# EAGLE library part ARUDUINO_MEGA_2560_R3 (library aruduinos)
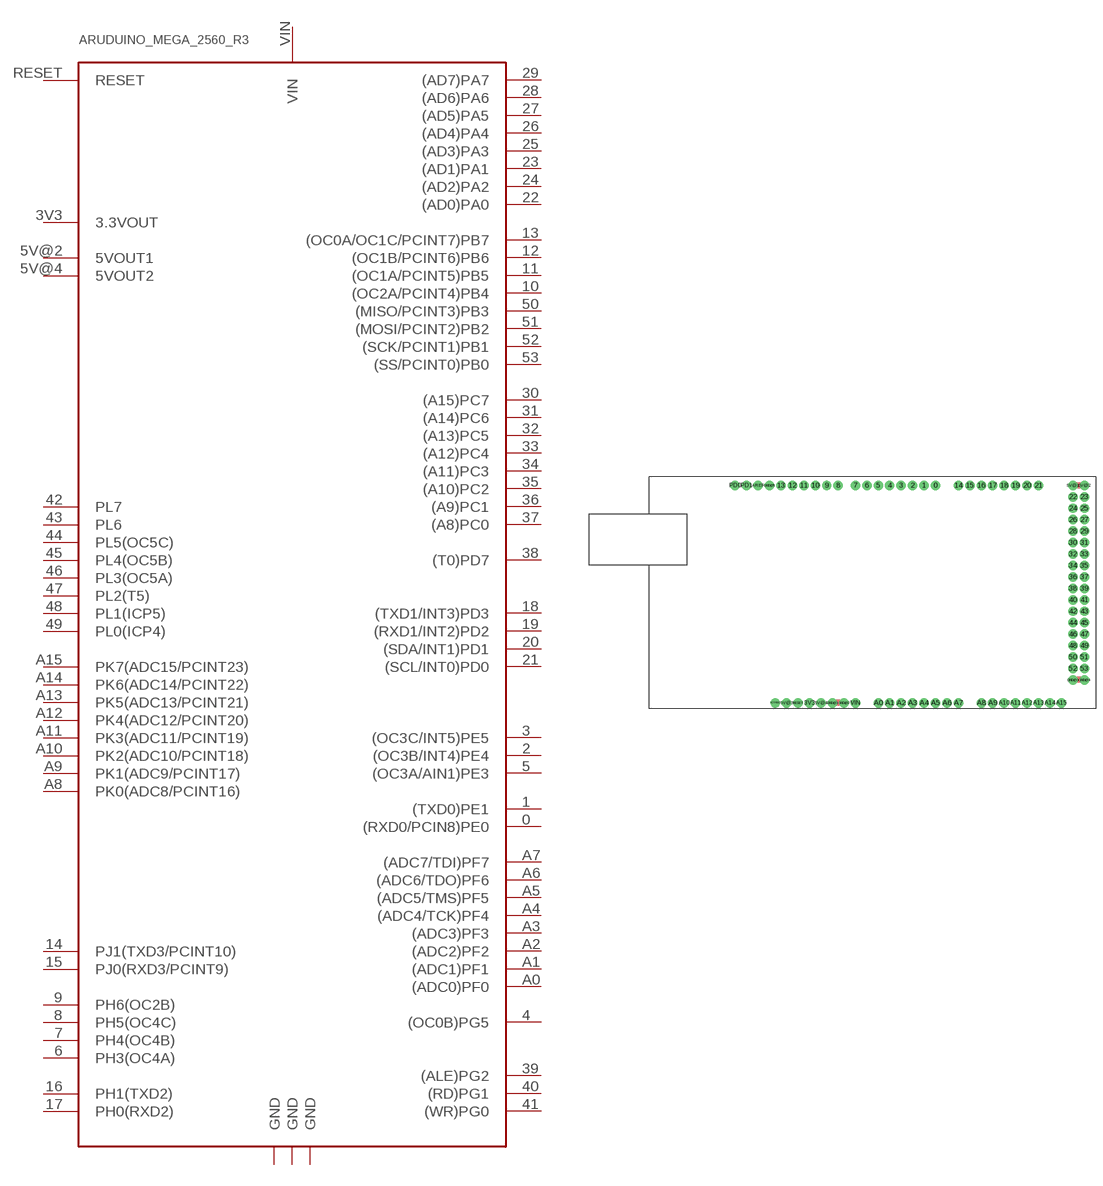
[diagram p0: symbol with the pads of ARUDUINO_MEGA_2560_R3; footprint ARUDUINO_MEGA_2560_R3]

Designator prefix AR

## ARUDUINO_MEGA_2560_R3  [ARUDUINO_MEGA_2560_R3]
0  (RXD0/PCIN8)PE0
1  (TXD0)PE1
2  (OC3B/INT4)PE4
3  (OC3C/INT5)PE5
3V3  3.3VOUT
4  (OC0B)PG5
5  (OC3A/AIN1)PE3
5V@2  5VOUT1
5V@4  5VOUT2
6  PH3(OC4A)
7  PH4(OC4B)
8  PH5(OC4C)
9  PH6(OC2B)
10  (OC2A/PCINT4)PB4
11  (OC1A/PCINT5)PB5
12  (OC1B/PCINT6)PB6
13  (OC0A/OC1C/PCINT7)PB7
14  PJ1(TXD3/PCINT10)
15  PJ0(RXD3/PCINT9)
16  PH1(TXD2)
17  PH0(RXD2)
18  (TXD1/INT3)PD3
19  (RXD1/INT2)PD2
20  (SDA/INT1)PD1
21  (SCL/INT0)PD0
22  (AD0)PA0
23  (AD1)PA1
24  (AD2)PA2
25  (AD3)PA3
26  (AD4)PA4
27  (AD5)PA5
28  (AD6)PA6
29  (AD7)PA7
30  (A15)PC7
31  (A14)PC6
32  (A13)PC5
33  (A12)PC4
34  (A11)PC3
35  (A10)PC2
36  (A9)PC1
37  (A8)PC0
38  (T0)PD7
39  (ALE)PG2
40  (RD)PG1
41  (WR)PG0
42  PL7
43  PL6
44  PL5(OC5C)
45  PL4(OC5B)
46  PL3(OC5A)
47  PL2(T5)
48  PL1(ICP5)
49  PL0(ICP4)
50  (MISO/PCINT3)PB3
51  (MOSI/PCINT2)PB2
52  (SCK/PCINT1)PB1
53  (SS/PCINT0)PB0
A0  (ADC0)PF0
A1  (ADC1)PF1
A2  (ADC2)PF2
A3  (ADC3)PF3
A4  (ADC4/TCK)PF4
A5  (ADC5/TMS)PF5
A6  (ADC6/TDO)PF6
A7  (ADC7/TDI)PF7
A8  PK0(ADC8/PCINT16)
A9  PK1(ADC9/PCINT17)
A10  PK2(ADC10/PCINT18)
A11  PK3(ADC11/PCINT19)
A12  PK4(ADC12/PCINT20)
A13  PK5(ADC13/PCINT21)
A14  PK6(ADC14/PCINT22)
A15  PK7(ADC15/PCINT23)
GND@1  GND
GND@3  GND
GND@5  GND
RESET  RESET
VIN  VIN

## Footprint ARUDUINO_MEGA_2560_R3 (pad centres in mm)
drill 1.4: 0 12.7,25.4; 1 10.16,25.4; 2 7.62,25.4; 3 5.08,25.4; 3V3 -15.24,-22.86; 4 2.54,25.4; 5 0,25.4; 5V@1 43.18,25.4; 5V@2 45.72,25.4; 5V@3 -20.32,-22.86; 5V@4 -12.7,-22.86; 6 -2.54,25.4; 7 -5.08,25.4; 8 -8.89,25.4; 9 -11.43,25.4; 10 -13.97,25.4; 11 -16.51,25.4; 12 -19.05,25.4; 13 -21.59,25.4; 14 17.78,25.4; 15 20.32,25.4; 16 22.86,25.4; 17 25.4,25.4; 18 27.94,25.4; 19 30.48,25.4; 20 33.02,25.4; 21 35.56,25.4; 22 43.18,22.86; 23 45.72,22.86; 24 43.18,20.32; 25 45.72,20.32; 26 43.18,17.78; 27 45.72,17.78; 28 43.18,15.24; 29 45.72,15.24; 30 43.18,12.7; 31 45.72,12.7; 32 43.18,10.16; 33 45.72,10.16; 34 43.18,7.62; 35 45.72,7.62; 36 43.18,5.08; 37 45.72,5.08; 38 43.18,2.54; 39 45.72,2.54; 40 43.18,0; 41 45.72,0; 42 43.18,-2.54; 43 45.72,-2.54; 44 43.18,-5.08; 45 45.72,-5.08; 46 43.18,-7.62; 47 45.72,-7.62; 48 43.18,-10.16; 49 45.72,-10.16; 50 43.18,-12.7; 51 45.72,-12.7; 52 43.18,-15.24; 53 45.72,-15.24; A0 0,-22.86; A1 2.54,-22.86; A2 5.08,-22.86; A3 7.62,-22.86; A4 10.16,-22.86; A5 12.7,-22.86; A6 15.24,-22.86; A7 17.78,-22.86; A8 22.86,-22.86; A9 25.4,-22.86; A10 27.94,-22.86; A11 30.48,-22.86; A12 33.02,-22.86; A13 35.56,-22.86; A14 38.1,-22.86; A15 40.64,-22.86; AREF -26.67,25.4; GND@1 -10.16,-22.86; GND@2 -7.62,-22.86; GND@3 43.18,-17.78; GND@4 45.72,-17.78; GND@5 -24.13,25.4; NOTHING -22.86,-22.86; PD0 -31.75,25.4; PD1 -29.21,25.4; RESET -17.78,-22.86; VIN -5.08,-22.86